# Altium footprint library WCAP-CSSA.PcbLib: 19 footprints (part 1 of 2)
Each footprint in its own frame and in the unit in brackets; x right, y up, seen from the top. Pads: shape width x height; smd on the part's side, far side on the other; paste and mask are expansions set on the pad; w line width, h text height; cw(c..) or ccw(c..) is an arc to the next point about the centre after c.
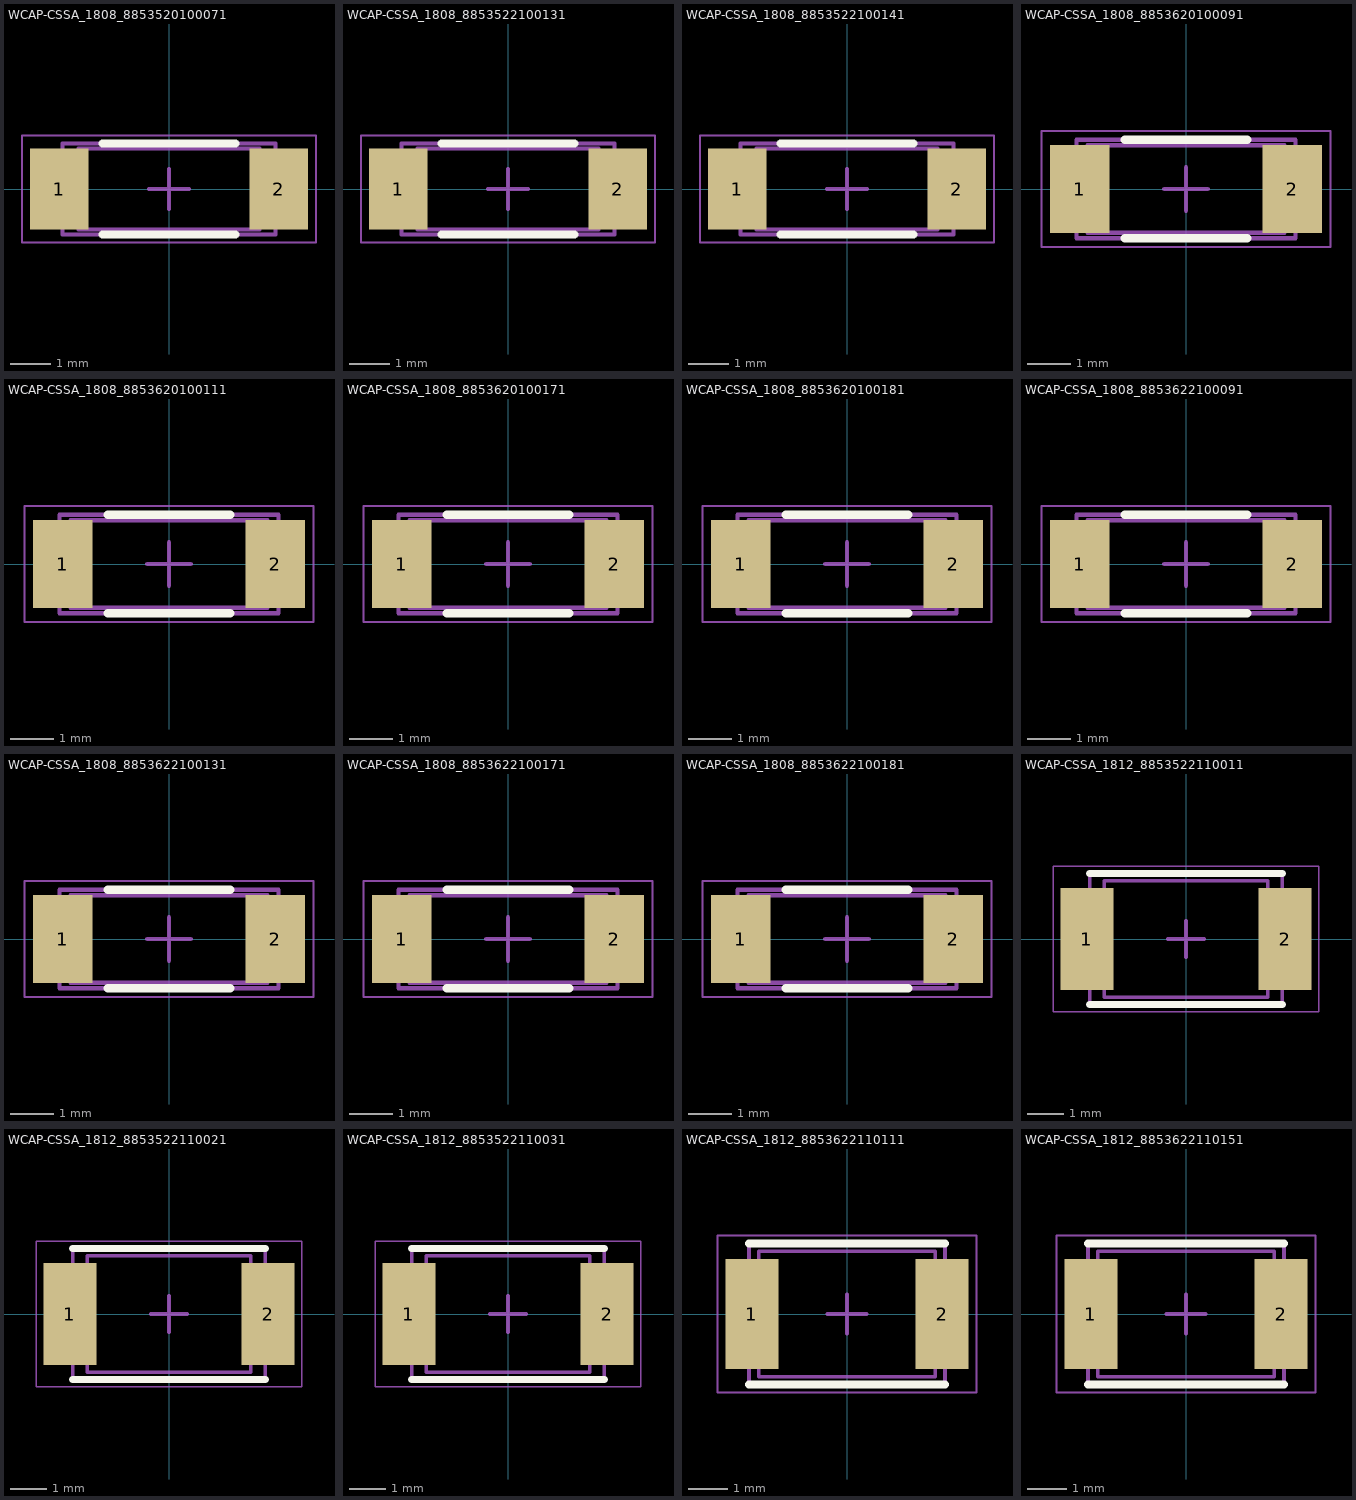
[diagram p0: the footprints below, top view; thin cyan lines are the x and y axes]

## WCAP-CSSA_1808_8853520100071 [mm] "Ceramic Capacitors, body 4.50x2.00mm"
height 1.4
pads (2):
  rect 1.45x2 smd: 1(-2.725,0) 2(2.725,0)
Top Overlay:
  lines w0.2: -1.65,-1.125 1.65,-1.125 ; -1.65,1.125 1.65,1.125
Top Assembly:
  lines w0.1: -2.65,-1.125 -2.65,1.125 2.65,1.125 2.65,-1.125 -2.65,-1.125
Top Designator:
  text ".Designator" at -3.647,-0.357 h1
Top 3D Body:
  lines w0.1: -2.25,-1 -2.25,1 2.25,1 2.25,-1 -2.25,-1
Top Courtyard:
  lines w0.05: -3.65,-1.325 -3.65,1.325 3.65,1.325 3.65,-1.325 -3.65,-1.325
Top Component Center:
  lines w0.1: -0.5,0 0.5,0 ; 0,-0.5 0,0.5
3D body "CAPC4520X14N.step": height 1.4, standoff 0, extent -2.25,-1 2.25,1

## WCAP-CSSA_1808_8853522100131 [mm] "Ceramic Capacitors, body 4.50x2.00mm"
height 2
pads (2):
  rect 1.45x2 smd: 1(-2.725,0) 2(2.725,0)
Top Overlay:
  lines w0.2: -1.65,-1.125 1.65,-1.125 ; -1.65,1.125 1.65,1.125
Top Assembly:
  lines w0.1: -2.65,-1.125 2.65,-1.125 2.65,1.125 -2.65,1.125 -2.65,-1.125
Top Designator:
  text ".Designator" at -3.647,-0.357 h1
Top 3D Body:
  lines w0.1: -2.25,-1 2.25,-1 2.25,1 -2.25,1 -2.25,-1
Top Courtyard:
  lines w0.05: -3.65,-1.325 3.65,-1.325 3.65,1.325 -3.65,1.325 -3.65,-1.325
Top Component Center:
  lines w0.1: -0.5,0 0.5,0 ; 0,-0.5 0,0.5
3D body "CAPC4520X20N.step": height 2, standoff 0, extent -2.25,-1 2.25,1

## WCAP-CSSA_1808_8853522100141 [mm] "Ceramic Capacitors, body 4.50x2.00mm"
height 1.6
pads (2):
  rect 1.45x2 smd: 1(-2.725,0) 2(2.725,0)
Top Overlay:
  lines w0.2: -1.65,-1.125 1.65,-1.125 ; -1.65,1.125 1.65,1.125
Top Assembly:
  lines w0.1: -2.65,-1.125 2.65,-1.125 2.65,1.125 -2.65,1.125 -2.65,-1.125
Top Designator:
  text ".Designator" at -3.647,-0.357 h1
Top 3D Body:
  lines w0.1: -2.25,-1 -2.25,1 2.25,1 2.25,-1 -2.25,-1
Top Courtyard:
  lines w0.05: -3.65,-1.325 3.65,-1.325 3.65,1.325 -3.65,1.325 -3.65,-1.325
Top Component Center:
  lines w0.1: -0.5,0 0.5,0 ; 0,-0.5 0,0.5
3D body "1808.step": height 1.6, standoff 0, extent -2.25,-1 2.25,1

## WCAP-CSSA_1808_8853620100091 [mm] "Ceramic Capacitors, body 4.50x2.00mm"
height 1.4
pads (2):
  rect 1.35x2 smd: 1(-2.425,0) 2(2.425,0)
Top Overlay:
  lines w0.2: -1.4,-1.125 1.4,-1.125 ; -1.4,1.125 1.4,1.125
Top Assembly:
  lines w0.1: -2.5,-1.125 2.5,-1.125 2.5,1.125 -2.5,1.125 -2.5,-1.125
Top Designator:
  text ".Designator" at -3.647,-0.357 h1
Top 3D Body:
  lines w0.1: -2.25,-1 -2.25,1 2.25,1 2.25,-1 -2.25,-1
Top Courtyard:
  lines w0.05: -3.3,-1.325 3.3,-1.325 3.3,1.325 -3.3,1.325 -3.3,-1.325
Top Component Center:
  lines w0.1: -0.5,0 0.5,0 ; 0,-0.5 0,0.5
3D body "CAPC4520X14N.step": height 1.4, standoff 0, extent -2.25,-1 2.25,1

## WCAP-CSSA_1808_8853620100111 [mm] "Ceramic Capacitors, body 4.50x2.00mm"
height 1.6
pads (2):
  rect 1.35x2 smd: 1(-2.425,0) 2(2.425,0)
Top Overlay:
  lines w0.2: -1.4,-1.125 1.4,-1.125 ; -1.4,1.125 1.4,1.125
Top Assembly:
  lines w0.1: -2.5,-1.125 -2.5,1.125 2.5,1.125 2.5,-1.125 -2.5,-1.125
Top Designator:
  text ".Designator" at -3.647,-0.357 h1
Top 3D Body:
  lines w0.1: -2.25,-1 -2.25,1 2.25,1 2.25,-1 -2.25,-1
Top Courtyard:
  lines w0.05: -3.3,-1.325 -3.3,1.325 3.3,1.325 3.3,-1.325 -3.3,-1.325
Top Component Center:
  lines w0.1: -0.5,0 0.5,0 ; 0,-0.5 0,0.5
3D body "1808.step": height 1.6, standoff 0, extent -2.25,-1 2.25,1

## WCAP-CSSA_1808_8853620100171 [mm] "Ceramic Capacitors, body 4.50x2.00mm"
height 2
pads (2):
  rect 1.35x2 smd: 1(-2.425,0) 2(2.425,0)
Top Overlay:
  lines w0.2: -1.4,-1.125 1.4,-1.125 ; -1.4,1.125 1.4,1.125
Top Assembly:
  lines w0.1: -2.5,-1.125 2.5,-1.125 2.5,1.125 -2.5,1.125 -2.5,-1.125
Top Designator:
  text ".Designator" at -3.647,-0.357 h1
Top 3D Body:
  lines w0.1: -2.25,-1 2.25,-1 2.25,1 -2.25,1 -2.25,-1
Top Courtyard:
  lines w0.05: -3.3,-1.325 3.3,-1.325 3.3,1.325 -3.3,1.325 -3.3,-1.325
Top Component Center:
  lines w0.1: -0.5,0 0.5,0 ; 0,-0.5 0,0.5
3D body "CAPC4520X20N.step": height 2, standoff 0, extent -2.25,-1 2.25,1

## WCAP-CSSA_1808_8853620100181 [mm] "Ceramic Capacitors, body 4.50x2.00mm"
height 2
pads (2):
  rect 1.35x2 smd: 1(-2.425,0) 2(2.425,0)
Top Overlay:
  lines w0.2: -1.4,-1.125 1.4,-1.125 ; -1.4,1.125 1.4,1.125
Top Assembly:
  lines w0.1: -2.5,-1.125 -2.5,1.125 2.5,1.125 2.5,-1.125 -2.5,-1.125
Top Designator:
  text ".Designator" at -3.647,-0.357 h1
Top 3D Body:
  lines w0.1: -2.25,-1 -2.25,1 2.25,1 2.25,-1 -2.25,-1
Top Courtyard:
  lines w0.05: -3.3,-1.325 -3.3,1.325 3.3,1.325 3.3,-1.325 -3.3,-1.325
Top Component Center:
  lines w0.1: -0.5,0 0.5,0 ; 0,-0.5 0,0.5
3D body "CAPC4520X20N.step": height 2, standoff 0, extent -2.25,-1 2.25,1

## WCAP-CSSA_1808_8853622100091 [mm] "Ceramic Capacitors, body 4.50x2.00mm"
height 1.6
pads (2):
  rect 1.35x2 smd: 1(-2.425,0) 2(2.425,0)
Top Overlay:
  lines w0.2: -1.4,-1.125 1.4,-1.125 ; -1.4,1.125 1.4,1.125
Top Assembly:
  lines w0.1: -2.5,-1.125 -2.5,1.125 2.5,1.125 2.5,-1.125 -2.5,-1.125
Top Designator:
  text ".Designator" at -3.647,-0.357 h1
Top 3D Body:
  lines w0.1: -2.25,-1 -2.25,1 2.25,1 2.25,-1 -2.25,-1
Top Courtyard:
  lines w0.05: -3.3,-1.325 -3.3,1.325 3.3,1.325 3.3,-1.325 -3.3,-1.325
Top Component Center:
  lines w0.1: -0.5,0 0.5,0 ; 0,-0.5 0,0.5
3D body "1808.step": height 1.6, standoff 0, extent -2.25,-1 2.25,1

## WCAP-CSSA_1808_8853622100131 [mm] "Ceramic Capacitors, body 4.50x2.00mm"
height 1.6
pads (2):
  rect 1.35x2 smd: 1(-2.425,0) 2(2.425,0)
Top Overlay:
  lines w0.2: -1.4,-1.125 1.4,-1.125 ; -1.4,1.125 1.4,1.125
Top Assembly:
  lines w0.1: -2.5,-1.125 2.5,-1.125 2.5,1.125 -2.5,1.125 -2.5,-1.125
Top Designator:
  text ".Designator" at -3.647,-0.357 h1
Top 3D Body:
  lines w0.1: -2.25,-1 2.25,-1 2.25,1 -2.25,1 -2.25,-1
Top Courtyard:
  lines w0.05: -3.3,-1.325 3.3,-1.325 3.3,1.325 -3.3,1.325 -3.3,-1.325
Top Component Center:
  lines w0.1: -0.5,0 0.5,0 ; 0,-0.5 0,0.5
3D body "1808.step": height 1.6, standoff 0, extent -2.25,-1 2.25,1

## WCAP-CSSA_1808_8853622100171 [mm] "Ceramic Capacitors, body 4.50x2.00mm"
height 2
pads (2):
  rect 1.35x2 smd: 1(-2.425,0) 2(2.425,0)
Top Overlay:
  lines w0.2: -1.4,-1.125 1.4,-1.125 ; -1.4,1.125 1.4,1.125
Top Assembly:
  lines w0.1: -2.5,-1.125 -2.5,1.125 2.5,1.125 2.5,-1.125 -2.5,-1.125
Top Designator:
  text ".Designator" at -3.647,-0.357 h1
Top 3D Body:
  lines w0.1: -2.25,-1 -2.25,1 2.25,1 2.25,-1 -2.25,-1
Top Courtyard:
  lines w0.05: -3.3,-1.325 -3.3,1.325 3.3,1.325 3.3,-1.325 -3.3,-1.325
Top Component Center:
  lines w0.1: -0.5,0 0.5,0 ; 0,-0.5 0,0.5
3D body "CAPC4520X20N.step": height 2, standoff 0, extent -2.25,-1 2.25,1

## WCAP-CSSA_1808_8853622100181 [mm] "Ceramic Capacitors, body 4.50x2.00mm"
height 1.6
pads (2):
  rect 1.35x2 smd: 1(-2.425,0) 2(2.425,0)
Top Overlay:
  lines w0.2: -1.4,-1.125 1.4,-1.125 ; -1.4,1.125 1.4,1.125
Top Assembly:
  lines w0.1: -2.5,-1.125 -2.5,1.125 2.5,1.125 2.5,-1.125 -2.5,-1.125
Top Designator:
  text ".Designator" at -3.647,-0.357 h1
Top 3D Body:
  lines w0.1: -2.25,-1 -2.25,1 2.25,1 2.25,-1 -2.25,-1
Top Courtyard:
  lines w0.05: -3.3,-1.325 -3.3,1.325 3.3,1.325 3.3,-1.325 -3.3,-1.325
Top Component Center:
  lines w0.1: -0.5,0 0.5,0 ; 0,-0.5 0,0.5
3D body "1808.step": height 1.6, standoff 0, extent -2.25,-1 2.25,1

## WCAP-CSSA_1812_8853522110011 [mm] "Ceramic Capacitors, body 4.50x3.20mm"
height 1.6
pads (2):
  rect 1.45x2.8 smd: 1(-2.725,0) 2(2.725,0)
Top Overlay:
  lines w0.2: -2.65,-1.8 2.65,-1.8 ; -2.65,1.8 2.65,1.8
Top Assembly:
  lines w0.1: -2.65,-1.8 2.65,-1.8 2.65,1.8 -2.65,1.8 -2.65,-1.8
Top Designator:
  text ".Designator" at -3.647,-0.357 h1
Top 3D Body:
  lines w0.1: -2.25,-1.6 2.25,-1.6 2.25,1.6 -2.25,1.6 -2.25,-1.6
Top Courtyard:
  lines w0.05: -3.65,-2 -3.65,2 3.65,2 3.65,-2 -3.65,-2
Top Component Center:
  lines w0.1: -0.5,0 0.5,0 ; 0,-0.5 0,0.5
3D body "CAPC4532X16N.step": height 1.6, standoff 0, extent -2.25,-1.6 2.25,1.6

## WCAP-CSSA_1812_8853522110021 [mm] "Ceramic Capacitors, body 4.50x3.20mm"
height 2
pads (2):
  rect 1.45x2.8 smd: 1(-2.725,0) 2(2.725,0)
Top Overlay:
  lines w0.2: -2.65,-1.8 2.65,-1.8 ; -2.65,1.8 2.65,1.8
Top Assembly:
  lines w0.1: -2.65,-1.8 -2.65,1.8 2.65,1.8 2.65,-1.8 -2.65,-1.8
Top Designator:
  text ".Designator" at -3.647,-0.357 h1
Top 3D Body:
  lines w0.1: -2.25,-1.6 -2.25,1.6 2.25,1.6 2.25,-1.6 -2.25,-1.6
Top Courtyard:
  lines w0.05: -3.65,-2 3.65,-2 3.65,2 -3.65,2 -3.65,-2
Top Component Center:
  lines w0.1: -0.5,0 0.5,0 ; 0,-0.5 0,0.5
3D body "CAPC4532X20N.step": height 2, standoff 0, extent -2.25,-1.6 2.25,1.6

## WCAP-CSSA_1812_8853522110031 [mm] "Ceramic Capacitors, body 4.50x3.20mm"
height 2.5
pads (2):
  rect 1.45x2.8 smd: 1(-2.725,0) 2(2.725,0)
Top Overlay:
  lines w0.2: -2.65,-1.8 2.65,-1.8 ; -2.65,1.8 2.65,1.8
Top Assembly:
  lines w0.1: -2.65,-1.8 2.65,-1.8 2.65,1.8 -2.65,1.8 -2.65,-1.8
Top Designator:
  text ".Designator" at -3.647,-0.357 h1
Top 3D Body:
  lines w0.1: -2.25,-1.6 2.25,-1.6 2.25,1.6 -2.25,1.6 -2.25,-1.6
Top Courtyard:
  lines w0.05: -3.65,-2 -3.65,2 3.65,2 3.65,-2 -3.65,-2
Top Component Center:
  lines w0.1: -0.5,0 0.5,0 ; 0,-0.5 0,0.5
3D body "CAPC4532X25N.step": height 2.5, standoff 0, extent -2.25,-1.6 2.25,1.6

## WCAP-CSSA_1812_8853622110111 [mm] "Ceramic Capacitors, body 4.50x3.20mm"
height 1.6
pads (2):
  rect 1.35x2.8 smd: 1(-2.425,0) 2(2.425,0)
Top Overlay:
  lines w0.2: -2.5,-1.8 2.5,-1.8 ; -2.5,1.8 2.5,1.8
Top Assembly:
  lines w0.1: -2.5,-1.8 2.5,-1.8 2.5,1.8 -2.5,1.8 -2.5,-1.8
Top Designator:
  text ".Designator" at -3.647,-0.357 h1
Top 3D Body:
  lines w0.1: -2.25,-1.6 2.25,-1.6 2.25,1.6 -2.25,1.6 -2.25,-1.6
Top Courtyard:
  lines w0.05: -3.3,-2 -3.3,2 3.3,2 3.3,-2 -3.3,-2
Top Component Center:
  lines w0.1: -0.5,0 0.5,0 ; 0,-0.5 0,0.5
3D body "CAPC4532X16N.step": height 1.6, standoff 0, extent -2.25,-1.6 2.25,1.6

## WCAP-CSSA_1812_8853622110151 [mm] "Ceramic Capacitors, body 4.50x3.20mm"
height 2.5
pads (2):
  rect 1.35x2.8 smd: 1(-2.425,0) 2(2.425,0)
Top Overlay:
  lines w0.2: -2.5,-1.8 2.5,-1.8 ; -2.5,1.8 2.5,1.8
Top Assembly:
  lines w0.1: -2.5,-1.8 2.5,-1.8 2.5,1.8 -2.5,1.8 -2.5,-1.8
Top Designator:
  text ".Designator" at -3.647,-0.357 h1
Top 3D Body:
  lines w0.1: -2.25,-1.6 2.25,-1.6 2.25,1.6 -2.25,1.6 -2.25,-1.6
Top Courtyard:
  lines w0.05: -3.3,-2 -3.3,2 3.3,2 3.3,-2 -3.3,-2
Top Component Center:
  lines w0.1: -0.5,0 0.5,0 ; 0,-0.5 0,0.5
3D body "CAPC4532X25N.step": height 2.5, standoff 0, extent -2.25,-1.6 2.25,1.6